# EAGLE library part C12880MA (library COM-13909)
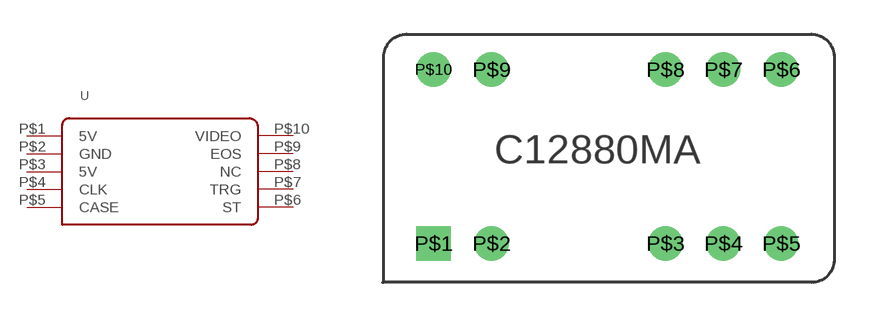
[diagram p3: symbol with the pads of C12880MA_FOOTPRINT; footprint C12880MA_FOOTPRINT]

Designator prefix -

## C12880MA  [C12880MA_FOOTPRINT]
P$1  5V
P$2  GND
P$3  5V
P$4  CLK
P$5  CASE
P$6  ST
P$7  TRG
P$8  NC
P$9  EOS
P$10  VIDEO

## Footprint C12880MA_FOOTPRINT (pad centres in mm)
drill 0.6 pad 1.5 square: P$1 0,0
drill 0.6 pad 1.5: P$2 2.54,0; P$3 10.16,0; P$4 12.7,0; P$5 15.24,0; P$6 15.24,7.62; P$7 12.7,7.62; P$8 10.16,7.62; P$9 2.54,7.62; P$10 0,7.62